# EAGLE library part DRV2605L (library Texas Instruments)
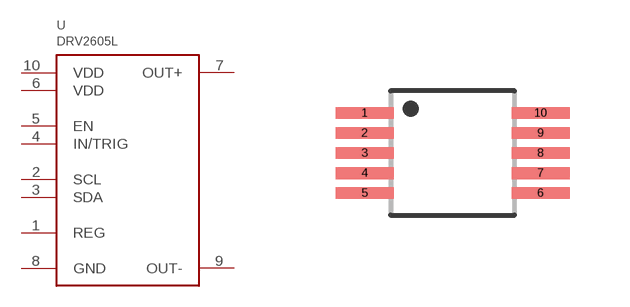
[diagram p3: symbol with the pads of VSSOP10; footprint VSSOP10]

Designator prefix U

## DRV2605L  [VSSOP10]
1  REG
2  SCL
3  SDA
4  IN/TRIG
5  EN
6  VDD
7  OUT+
8  GND
9  OUT-
10  VDD

## Footprint VSSOP10 (pad centres in mm)
smd 1.45 x 0.3: 1 -2.2,1; 2 -2.2,0.5; 3 -2.2,0; 4 -2.2,-0.5; 5 -2.2,-1; 6 2.2,-1; 7 2.2,-0.5; 8 2.2,0; 9 2.2,0.5; 10 2.2,1